# EAGLE library part LT3573 (library lt3573)
The LT®3573 is a monolithic switching regulator specifi- cally designed for the isolated flyback topology. No third winding or opto-isolator is required for regulation. The part senses the isolated output voltage directly from the primary-side flyback waveform. A 1.25A, 60V NPN power switch is integrated along with all control logic into16?lead MSOP package. This library is created by Maximilian Niedernhuber m.niedernhuber(at)draketronic.de
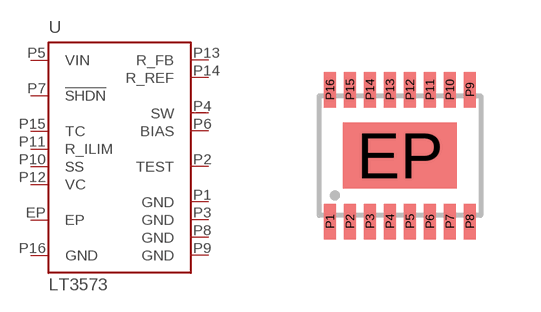
[diagram p0: symbol with the pads of MSOP-16-EP; footprint MSOP-16-EP]

Designator prefix -

## LT3573  [MSOP-16-EP]
EP  EP  pwr
P1  GND  pwr
P2  TEST  pas
P3  GND  pwr
P4  SW  out
P5  VIN  pwr
P6  BIAS  pas
P7  !SHDN  in
P8  GND  pwr
P9  GND  pwr
P10  SS  pas
P11  R_ILIM  pas
P12  VC  pwr
P13  R_FB  pas
P14  R_REF  pas
P15  TC  pas
P16  GND  pwr

## Footprint MSOP-16-EP (pad centres in mm)
Linear MSOP-16 with exposed die pad (MSE package) (C) by Maximilian Niedernhuber m.niedernhuber(at)draketronic.de
smd 2.845 x 1.651: EP 0,0
smd 0.305 x 0.889: P1 -1.75,-1.65; P2 -1.25,-1.65; P3 -0.75,-1.65; P4 -0.25,-1.65; P5 0.25,-1.65; P6 0.75,-1.65; P7 1.25,-1.65; P8 1.75,-1.65; P9 1.75,1.65; P10 1.25,1.65; P11 0.75,1.65; P12 0.25,1.65; P13 -0.25,1.65; P14 -0.75,1.65; P15 -1.25,1.65; P16 -1.75,1.65